# Altium footprint library CNSW_1206.PcbLib: 1 footprints
Each footprint in its own frame and in the unit in brackets; x right, y up, seen from the top. Pads: shape width x height; smd on the part's side, far side on the other; paste and mask are expansions set on the pad; w line width, h text height; cw(c..) or ccw(c..) is an arc to the next point about the centre after c.
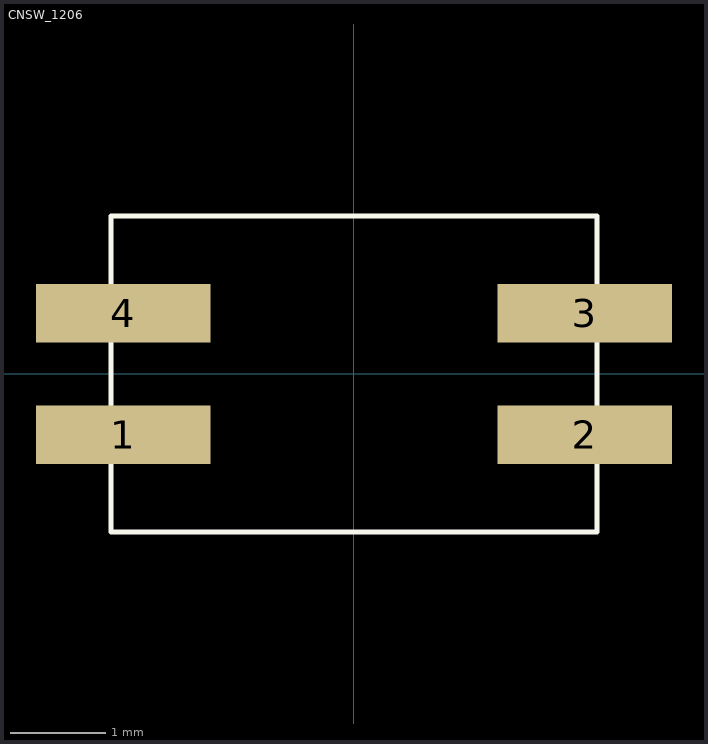
[diagram p0: the footprint, top view; thin cyan lines are the x and y axes]

## CNSW_1206 [mil]
height 74.8
pads (4):
  rect 72x24 smd: 1(-95,-25) 2(95,-25) 3(95,25) 4(-95,25)
Top Overlay:
  lines w2: -100,-65 -100,65 100,65 100,-65 -100,-65
3D body: height 74.8, standoff 0, extent -101,-66 101,66